# EAGLE library part RN4870-V_RM140 (library SamacSys_Parts)
Bluetooth Modules - 802.15.1 Bluetooth Low Energy BLE Module, Shielded, Antenna, ASCII Interface, 12x22mm Source: Datasheet <https://eu.mouser.com/datasheet/2/268/RN4870_71_Bluetooth_Low_Energy_Module_DS50002489-3002868.pdf>
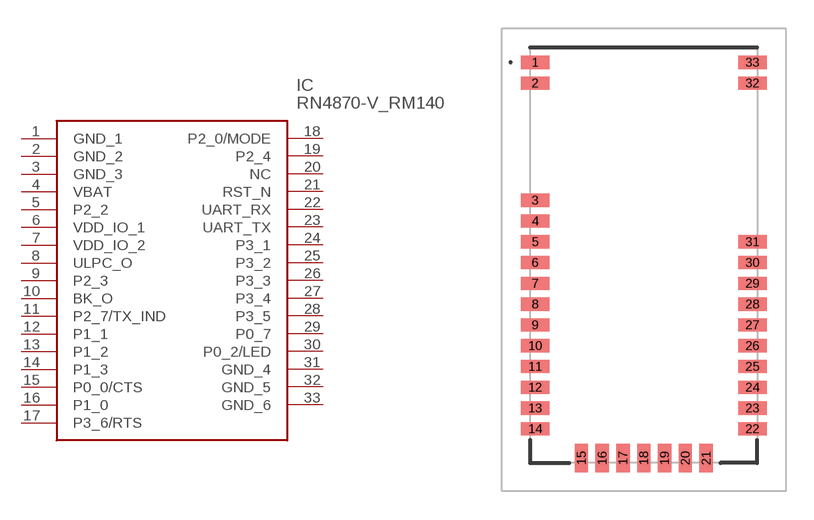
[diagram p2: symbol with the pads of RN4870VRM140; footprint RN4870VRM140]

Designator prefix IC

## RN4870-V_RM140 (Arrow_Part_Number: RN4870-V/RM140; Arrow_Price-Stock: https://www.arrow.com/en/products/rn4870-vrm140/microchip-technology?utm_currency=USD&region=nac; Description: Bluetooth Modules - 802.15.1 Bluetooth Low Energy BLE Module, Shielded, Antenna, ASCII Interface, 12x22mm; Height: 2.4mm; Manufacturer_Name: Microchip; Manufacturer_Part_Number: RN4870-V/RM140; Mouser_Part_Number: 579-RN4870-V/RM140; Mouser_Price-Stock: https://www.mouser.co.uk/ProductDetail/Microchip-Technology/RN4870-V-RM140?qs=BJlw7L4Cy78MyF1QcbM5vg%3D%3D)  [RN4870VRM140]
1  GND_1
2  GND_2
3  GND_3
4  VBAT
5  P2_2
6  VDD_IO_1
7  VDD_IO_2
8  ULPC_O
9  P2_3
10  BK_O
11  P2_7/TX_IND
12  P1_1
13  P1_2
14  P1_3
15  P0_0/CTS
16  P1_0
17  P3_6/RTS
18  P2_0/MODE
19  P2_4
20  NC  nc
21  RST_N
22  UART_RX
23  UART_TX
24  P3_1
25  P3_2
26  P3_3
27  P3_4
28  P3_5
29  P0_7
30  P0_2/LED
31  GND_4
32  GND_5
33  GND_6

## Footprint RN4870VRM140 (pad centres in mm)
RN4870-V/RM140-2
smd 1.5 x 0.7: 1 -5.75,10.2; 2 -5.75,9.1; 3 -5.75,2.9; 4 -5.75,1.8; 5 -5.75,0.7; 6 -5.75,-0.4; 7 -5.75,-1.5; 8 -5.75,-2.6; 9 -5.75,-3.7; 10 -5.75,-4.8; 11 -5.75,-5.9; 12 -5.75,-7; 13 -5.75,-8.1; 14 -5.75,-9.2; 22 5.75,-9.2; 23 5.75,-8.1; 24 5.75,-7; 25 5.75,-5.9; 26 5.75,-4.8; 27 5.75,-3.7; 28 5.75,-2.6; 29 5.75,-1.5; 30 5.75,-0.4; 31 5.75,0.7; 32 5.75,9.1; 33 5.75,10.2
smd 0.7 x 1.5: 15 -3.3,-10.75; 16 -2.2,-10.75; 17 -1.1,-10.75; 18 0,-10.75; 19 1.1,-10.75; 20 2.2,-10.75; 21 3.3,-10.75